# Altium footprint library mrsl.PcbLib: 218 footprints (part 11 of 14)
Each footprint in its own frame and in the unit in brackets; x right, y up, seen from the top. Pads: shape width x height; smd on the part's side, far side on the other; paste and mask are expansions set on the pad; w line width, h text height; cw(c..) or ccw(c..) is an arc to the next point about the centre after c.
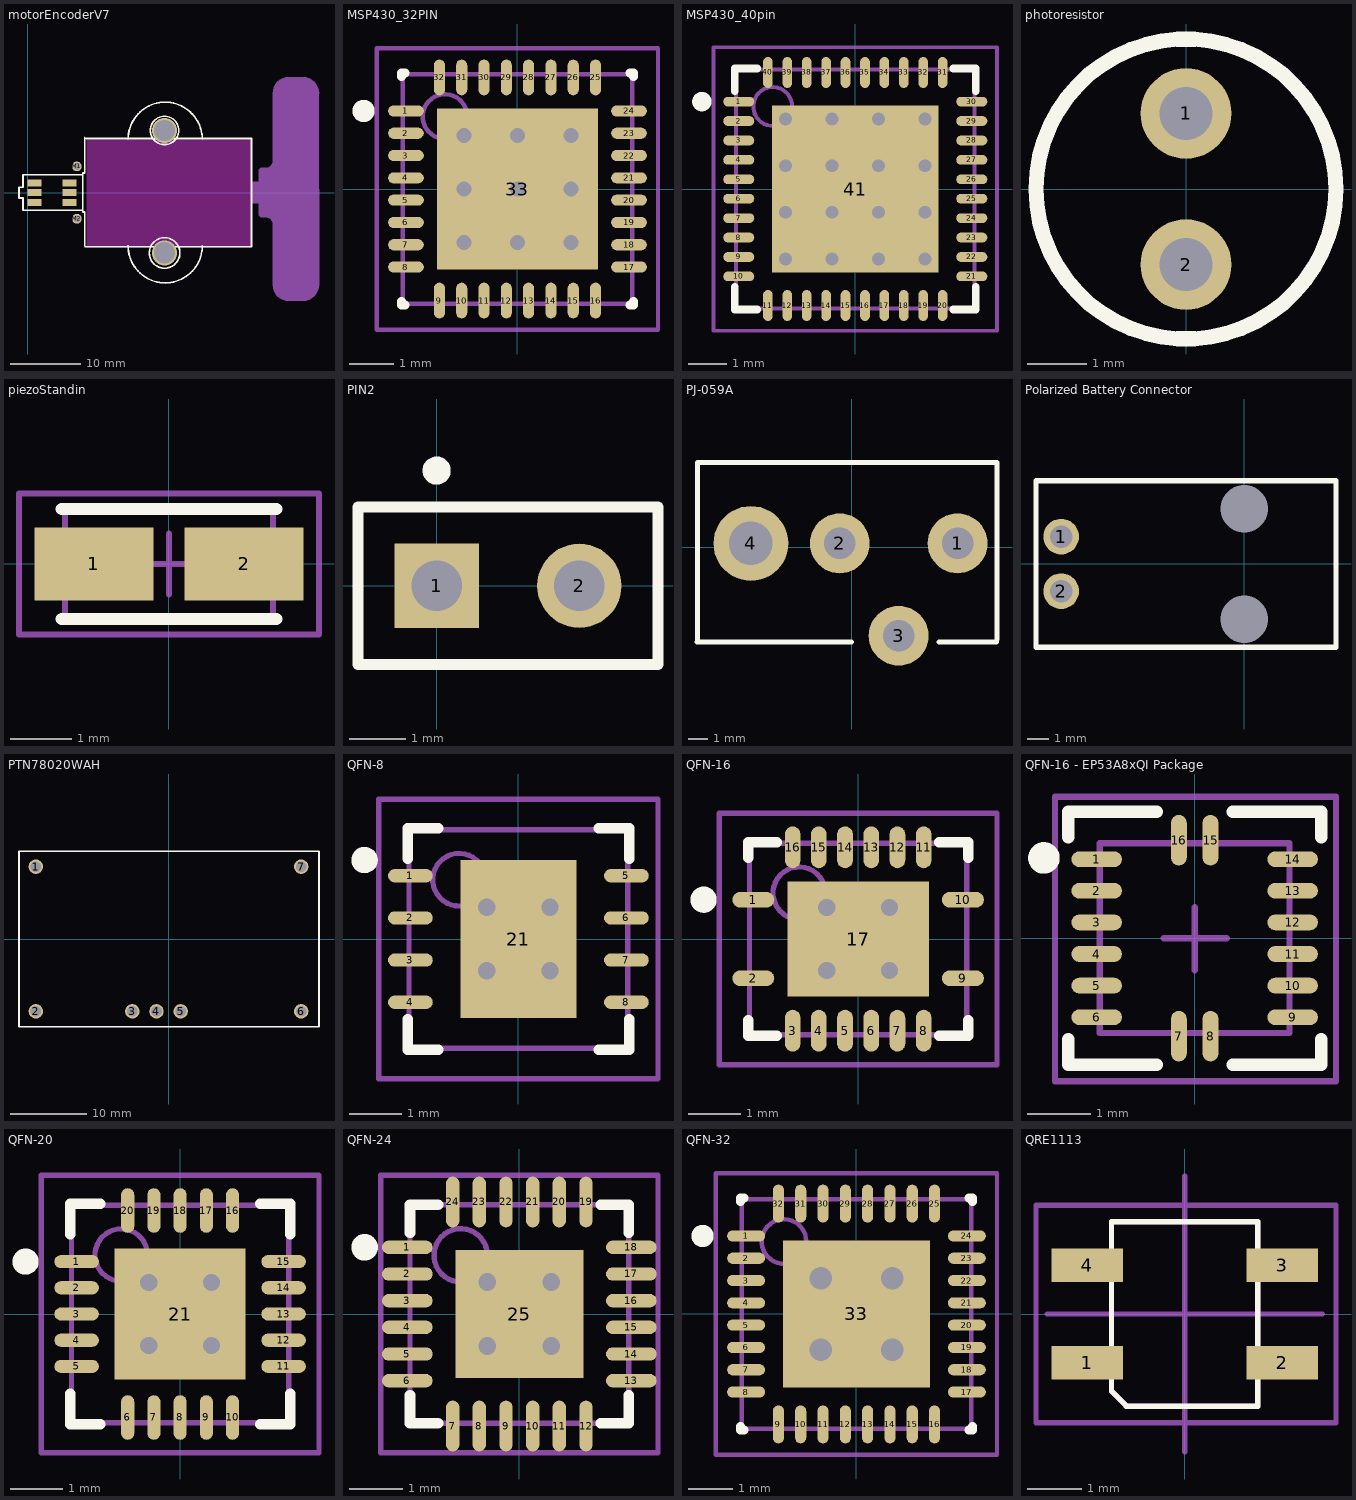
[diagram p10: the footprints below, top view; thin cyan lines are the x and y axes]

## motorEncoderV7 [mm] "Motor with encoder, Pololu"
height 2.29
pads (8):
  rect 2x1 smd: A(0.965,1.4) C(5.969,1.4) E1(5.969,0) E2(5.969,-1.4) K(0.965,-1.4) NC(0.965,0)
  round 1.4 hole 1: M1(7,3.75) M2(7,-3.75)
via 19.558,8.89 diameter 3.556 hole 3.048
via 19.558,-8.636 diameter 3.556 hole 3.048
Top Overlay:
  circle w0.254: c19.558,8.89 r2.032
  circle w0.254: c19.558,-8.636 r2.185
  lines w0.254: 7.823,-2.54 -0.711,-2.54 -0.711,-0.762 -1.27,-0.762 -1.27,0.762 -0.711,0.762 -0.711,2.54 7.849,2.54 ; 8.128,-7.75 32,-7.75 32,7.75 8.382,7.75 ; 8.128,-7.62 8.128,-2.794 7.849,-2.794 7.849,-1.041 7.849,2.794 8.128,2.794 8.128,7.874 ; 14.341,-7.62 ccw(c19.65,-7.62) 24.959,-7.62 ; 14.341,7.62 cw(c19.65,7.62) 24.959,7.62
Keep-Out Layer:
  rectangle: 8.382,-7.874 32.004,7.62
Mechanical 1:
  region: 35.035,14.224 35.08,14.672 35.21,15.103 35.423,15.5 35.708,15.848 36.056,16.134 36.453,16.346 36.884,16.477 37.332,16.521 37.332,16.51 39.364,16.521 39.813,16.477 40.244,16.346 40.641,16.134 40.989,15.848 41.274,15.5 41.487,15.103 41.617,14.672 41.662,14.224 41.65,14.224 41.662,-13.208 41.617,-13.656 41.487,-14.087 41.274,-14.484 40.989,-14.832 40.641,-15.118 40.244,-15.33 39.813,-15.461 39.364,-15.505 39.364,-15.494 37.332,-15.505 36.884,-15.461 36.453,-15.33 36.056,-15.118 35.708,-14.832 35.423,-14.484 35.21,-14.087 35.08,-13.656 35.035,-13.208 35.046,-13.208 35.055,-4.572 35.02,-4.307 34.918,-4.06 34.755,-3.847 34.543,-3.685 34.296,-3.582 34.03,-3.547 34.03,-3.556 33.522,-3.566 33.324,-3.527 33.156,-3.414 33.044,-3.246 33.005,-3.048 33.014,-3.048 33.005,3.048 33.044,3.246 33.156,3.414 33.324,3.527 33.522,3.566 33.522,3.556 34.03,3.547 34.296,3.582 34.543,3.685 34.755,3.847 34.918,4.06 35.02,4.307 35.055,4.572 35.046,4.572
  region: 32.004,1.524 33.02,1.524 33.02,-1.524 32.004,-1.524

## MSP430_32PIN [mm] "32 pin QFN"
height 1
pads (33):
  oval 0.8x0.25 smd: 1(-2.5,1.75) 2(-2.5,1.25) 3(-2.5,0.75) 4(-2.5,0.25) 5(-2.5,-0.25) 6(-2.5,-0.75) 7(-2.5,-1.25) 8(-2.5,-1.75) 17(2.5,-1.75) 18(2.5,-1.25) 19(2.5,-0.75) 20(2.5,-0.25) 21(2.5,0.25) 22(2.5,0.75) 23(2.5,1.25) 24(2.5,1.75)
  oval 0.25x0.8 smd: 9(-1.75,-2.5) 10(-1.25,-2.5) 11(-0.75,-2.5) 12(-0.25,-2.5) 13(0.25,-2.5) 14(0.75,-2.5) 15(1.25,-2.5) 16(1.75,-2.5) 25(1.75,2.5) 26(1.25,2.5) 27(0.75,2.5) 28(0.25,2.5) 29(-0.25,2.5) 30(-0.75,2.5) 31(-1.25,2.5) 32(-1.75,2.5)
  rect 3.6x3.6 smd: 33(0,0)
via -1.2,1.2 diameter 0.66 hole 0.33
via 0,1.2 diameter 0.66 hole 0.33
via 1.2,1.2 diameter 0.66 hole 0.33
via -1.2,0 diameter 0.66 hole 0.33
via 0,0 diameter 0.66 hole 0.33
via 1.2,0 diameter 0.66 hole 0.33
via -1.2,-1.2 diameter 0.66 hole 0.33
via 0,-1.2 diameter 0.66 hole 0.33
via 1.2,-1.2 diameter 0.66 hole 0.33
Top Overlay:
  circle w0.25: c-3.45,1.75 r0.125
  lines w0.2: -2.6,-2.525 -2.6,-2.6 -2.525,-2.6 ; -2.6,2.525 -2.6,2.6 -2.525,2.6 ; 2.525,-2.6 2.6,-2.6 2.6,-2.525 ; 2.525,2.6 2.6,2.6 2.6,2.525
Mechanical 13:
  circle w0.1: c-1.625,1.625 r0.5
  lines w0.1: -2.575,-2.575 -2.575,2.575 2.575,2.575 2.575,-2.575 -2.575,-2.575
Mechanical 15:
  lines w0.1: -0.5,0 0.5,0 ; 0,-0.5 0,0.5 ; -3.15,-3.15 -3.15,3.15 3.15,3.15 3.15,-3.15 -3.15,-3.15
3D body: height 1, standoff 0, extent -2.575,-2.575 2.575,2.575

## MSP430_40pin [mm] "40 pin QFN"
height 1
pads (41):
  oval 0.8x0.25 smd: 1(-3,2.25) 2(-3,1.75) 3(-3,1.25) 4(-3,0.75) 5(-3,0.25) 6(-3,-0.25) 7(-3,-0.75) 8(-3,-1.25) 9(-3,-1.75) 10(-3,-2.25) 21(3,-2.25) 22(3,-1.75) 23(3,-1.25) 24(3,-0.75) 25(3,-0.25) 26(3,0.25) 27(3,0.75) 28(3,1.25) 29(3,1.75) 30(3,2.25)
  oval 0.25x0.8 smd: 11(-2.25,-3) 12(-1.75,-3) 13(-1.25,-3) 14(-0.75,-3) 15(-0.25,-3) 16(0.25,-3) 17(0.75,-3) 18(1.25,-3) 19(1.75,-3) 20(2.25,-3) 31(2.25,3) 32(1.75,3) 33(1.25,3) 34(0.75,3) 35(0.25,3) 36(-0.25,3) 37(-0.75,3) 38(-1.25,3) 39(-1.75,3) 40(-2.25,3)
  rect 4.3x4.3 smd: 41(0,0)
via 1.8,-1.8 diameter 0.66 hole 0.33
via 0.6,-1.8 diameter 0.66 hole 0.33
via -0.6,-1.8 diameter 0.66 hole 0.33
via -1.8,-1.8 diameter 0.66 hole 0.33
via 1.8,-0.6 diameter 0.66 hole 0.33
via 0.6,-0.6 diameter 0.66 hole 0.33
via -0.6,-0.6 diameter 0.66 hole 0.33
via -1.8,-0.6 diameter 0.66 hole 0.33
via 1.8,0.6 diameter 0.66 hole 0.33
via 0.6,0.6 diameter 0.66 hole 0.33
via -0.6,0.6 diameter 0.66 hole 0.33
via -1.8,0.6 diameter 0.66 hole 0.33
via 1.8,1.8 diameter 0.66 hole 0.33
via 0.6,1.8 diameter 0.66 hole 0.33
via -0.6,1.8 diameter 0.66 hole 0.33
via -1.8,1.8 diameter 0.66 hole 0.33
Top Overlay:
  circle w0.25: c-3.95,2.25 r0.125
  lines w0.2: -3.1,-2.525 -3.1,-3.1 -2.525,-3.1 ; -3.1,2.525 -3.1,3.1 -2.525,3.1 ; 2.525,-3.1 3.1,-3.1 3.1,-2.525 ; 2.525,3.1 3.1,3.1 3.1,2.525
Mechanical 13:
  circle w0.1: c-2.125,2.125 r0.5
  lines w0.1: -3.075,-3.075 3.075,-3.075 3.075,3.075 -3.075,3.075 -3.075,-3.075
Mechanical 15:
  lines w0.1: -0.5,0 0.5,0 ; 0,-0.5 0,0.5 ; -3.65,-3.65 3.65,-3.65 3.65,3.65 -3.65,3.65 -3.65,-3.65
3D body: height 1, standoff 0, extent -3.075,-3.075 3.075,3.075

## photoresistor [mil]
pads (2):
  round 60 hole 35: 1(0,50) 2(0,-50)
Top Overlay:
  circle w10: c0,0 r99.25

## piezoStandin [mm] "Molded Capacitor, 2-Leads, Body 3.2x1.6mm, IPC Medium Density"
height 1.8
pads (2):
  rect 1.95x1.2 smd: 1(-1.225,0) 2(1.225,0)
Top Overlay:
  lines w0.2: -1.75,-0.9 1.75,-0.9 ; -1.75,0.9 1.75,0.9
Mechanical 13:
  lines w0.1: -1.7,-0.9 -1.7,0.9 1.7,0.9 1.7,-0.9 -1.7,-0.9
Mechanical 15:
  lines w0.1: -0.5,0 0.5,0 ; 0,-0.5 0,0.5 ; -2.45,-1.15 -2.45,1.15 2.45,1.15 2.45,-1.15 -2.45,-1.15
3D body: height 1.8, standoff 0, extent -1.7,-0.9 1.7,0.9

## PIN2 [mm] "Photosensitive Diode; 2 Leads"
pads (2):
  rect 1.5x1.5 hole 0.9: 1(0,0)
  round 1.5 hole 0.9: 2(2.54,0)
Top Overlay:
  circle w0.25: c0,2.05 r0.125
  lines w0.2: -1.4,-1.4 -1.4,1.4 3.94,1.4 3.94,-1.4 -1.4,-1.4

## PJ-059A [mil] "DC power jack, rated at 16 V. For use in Toaster Charger."
pads (4):
  round 120 hole 63: 1(212,7.5) 2(-24,7.5) 3(94,-177.5)
  round 150 hole 87: 4(-202,7.5)
Top Overlay:
  lines w10: -310,-190 0,-190 ; -309,-185 -309,107.5 -309,170 291,170 291,102.5 ; 175,-190 290,-190 ; 291,-185 291,107.5
3D body: height 433, standoff 5, extent -305,-185 285,165

## Polarized Battery Connector [mil]
pads (4):
  round 65.6 hole 41: 1(-336,50) 2(-336,-50)
  oct 0x0 hole 87 square: hole(0,-101.5) hole(0,101.5)
Top Overlay:
  lines w10: -382.28,-152.76 -382.28,152.36 168.5,152.36 168.5,-152.76 -382.28,-152.76

## PTN78020WAH [mil] "T.I. DC/DC Converter (PTH)"
height 350
pads (7):
  round 75 hole 55: 1(-687.5,375) 2(-687.5,-375) 3(-187.5,-375) 4(-62.5,-375) 5(62.5,-375) 6(687.5,-375) 7(687.5,375)
Top Overlay:
  lines w10: -775,-455 -775,455 780,455 780,-455 -775,-455
3D body: height 350, standoff 0, extent -770,-445 775,450

## QFN-8 [mm] "QFN, 20-Leads, Body 4.2x4.2mm (max), Pitch 0.50mm, IPC Medium Density"
height 0.8
pads (9):
  oval 0.85x0.25 smd: 1(-2.05,1.2) 2(-2.05,0.4) 3(-2.05,-0.4) 4(-2.05,-1.2) 5(2.05,1.2) 6(2.05,0.4) 7(2.05,-0.4) 8(2.05,-1.2)
  rect 2.2x3 smd: 21(0,0)
via -0.6,0.6 diameter 0.66 hole 0.33
via 0.6,0.6 diameter 0.66 hole 0.33
via -0.6,-0.6 diameter 0.66 hole 0.33
via 0.6,-0.6 diameter 0.66 hole 0.33
Top Overlay:
  circle w0.25: c-2.919,1.499 r0.125
  lines w0.2: -2.1,-1.525 -2.1,-2.1 -1.525,-2.1 ; -2.1,1.525 -2.1,2.1 -1.525,2.1 ; 1.525,-2.1 2.1,-2.1 2.1,-1.525 ; 1.525,2.1 2.1,2.1 2.1,1.525
Mechanical 13:
  circle w0.1: c-1.125,1.125 r0.5
  lines w0.1: -2.075,-2.075 -2.075,2.075 2.075,2.075 2.075,-2.075 -2.075,-2.075
Mechanical 15:
  lines w0.1: -0.5,0 0.5,0 ; 0,-0.5 0,0.5 ; -2.65,-2.65 -2.65,2.65 2.65,2.65 2.65,-2.65 -2.65,-2.65
3D body: height 0.8, standoff 0.01, extent -2.075,-2.075 2.075,2.075

## QFN-16 [mm] "QFN, 16-Leads, Body 3.7x4.2mm (max), Pitch 0.50mm, Pitch1 1.50mm, IPC Medium Density"
height 1
pads (17):
  oval 0.8x0.3 smd: 1(-2,0.75) 2(-2,-0.75) 9(2,-0.75) 10(2,0.75)
  oval 0.3x0.8 smd: 3(-1.25,-1.75) 4(-0.75,-1.75) 5(-0.25,-1.75) 6(0.25,-1.75) 7(0.75,-1.75) 8(1.25,-1.75) 11(1.25,1.75) 12(0.75,1.75) 13(0.25,1.75) 14(-0.25,1.75) 15(-0.75,1.75) 16(-1.25,1.75)
  rect 2.7x2.2 smd: 17(0,0)
via -0.6,0.6 diameter 0.66 hole 0.33
via 0.6,0.6 diameter 0.66 hole 0.33
via -0.6,-0.6 diameter 0.66 hole 0.33
via 0.6,-0.6 diameter 0.66 hole 0.33
Top Overlay:
  circle w0.25: c-2.95,0.75 r0.125
  lines w0.2: -2.1,-1.55 -2.1,-1.85 -1.55,-1.85 ; -2.1,1.55 -2.1,1.85 -1.55,1.85 ; 1.55,-1.85 2.1,-1.85 2.1,-1.55 ; 1.55,1.85 2.1,1.85 2.1,1.55
Mechanical 13:
  circle w0.1: c-1.125,0.875 r0.5
  lines w0.1: -2.075,-1.825 -2.075,1.825 2.075,1.825 2.075,-1.825 -2.075,-1.825
Mechanical 15:
  lines w0.1: -0.5,0 0.5,0 ; 0,-0.5 0,0.5 ; -2.65,-2.4 -2.65,2.4 2.65,2.4 2.65,-2.4 -2.65,-2.4
3D body: height 1, standoff 0.05, extent -2.075,-1.825 2.075,1.825

## QFN-16 - EP53A8xQI Package [mm] "EP53A8xQI Package, QFN, 16-Leads, Body 3.7x4.2mm (max), Pitch 0.50mm, IPC Medium Density"
height 1.15
pads (16):
  oval 0.8x0.25 smd: 1(-1.55,1.25) 2(-1.55,0.75) 3(-1.55,0.25) 4(-1.55,-0.25) 5(-1.55,-0.75) 6(-1.55,-1.25) 9(1.55,-1.25) 10(1.55,-0.75) 11(1.55,-0.25) 12(1.55,0.25) 13(1.55,0.75) 14(1.55,1.25)
  oval 0.25x0.8 smd: 7(-0.25,-1.55) 8(0.25,-1.55) 15(0.25,1.55) 16(-0.25,1.55)
Top Overlay:
  circle w0.25: c-2.386,1.27 r0.125
  lines w0.2: -2,-1.6 -2,-2 -0.6,-2 ; -2,1.6 -2,2 -0.6,2 ; 0.6,-2 2,-2 2,-1.6 ; 0.6,2 2,2 2,1.6
Mechanical 13:
  lines w0.1: -1.5,-1.5 1.5,-1.5 1.5,1.5 -1.5,1.5 -1.5,-1.5
Mechanical 15:
  lines w0.1: -0.492,0 0.508,0 ; 0,-0.508 0,0.492 ; -2.21,-2.261 -2.21,2.235 2.235,2.235 2.235,-2.261 -2.21,-2.261
3D body: height 1.15, standoff 0.05, extent -1.504,-1.501 1.499,1.499

## QFN-20 [mm] "QFN, 20-Leads, Body 4.2x4.2mm (max), Pitch 0.50mm, IPC Medium Density"
height 0.8
pads (21):
  oval 0.85x0.25 smd: 1(-1.975,1) 2(-1.975,0.5) 3(-1.975,0) 4(-1.975,-0.5) 5(-1.975,-1) 11(1.975,-1) 12(1.975,-0.5) 13(1.975,0) 14(1.975,0.5) 15(1.975,1)
  oval 0.25x0.85 smd: 6(-1,-1.975) 7(-0.5,-1.975) 8(0,-1.975) 9(0.5,-1.975) 10(1,-1.975) 16(1,1.975) 17(0.5,1.975) 18(0,1.975) 19(-0.5,1.975) 20(-1,1.975)
  rect 2.5x2.5 smd: 21(0,0)
via 0.6,-0.6 diameter 0.66 hole 0.33
via -0.6,-0.6 diameter 0.66 hole 0.33
via 0.6,0.6 diameter 0.66 hole 0.33
via -0.6,0.6 diameter 0.66 hole 0.33
Top Overlay:
  circle w0.25: c-2.95,1 r0.125
  lines w0.2: -2.1,-1.525 -2.1,-2.1 -1.525,-2.1 ; -2.1,1.525 -2.1,2.1 -1.525,2.1 ; 1.525,-2.1 2.1,-2.1 2.1,-1.525 ; 1.525,2.1 2.1,2.1 2.1,1.525
Mechanical 13:
  circle w0.1: c-1.125,1.125 r0.5
  lines w0.1: -2.075,-2.075 2.075,-2.075 2.075,2.075 -2.075,2.075 -2.075,-2.075
Mechanical 15:
  lines w0.1: -0.5,0 0.5,0 ; 0,-0.5 0,0.5 ; -2.65,-2.65 2.65,-2.65 2.65,2.65 -2.65,2.65 -2.65,-2.65
3D body: height 0.8, standoff 0.01, extent -2.075,-2.075 2.075,2.075

## QFN-24 [mm] "QFN, 24-Leads, Body 4.1x4.1mm (max), Pitch 0.50mm, IPC Medium Density"
height 0.8
pads (25):
  oval 0.95x0.25 smd: 1(-2.1,1.25) 2(-2.1,0.75) 3(-2.1,0.25) 4(-2.1,-0.25) 5(-2.1,-0.75) 6(-2.1,-1.25) 13(2.1,-1.25) 14(2.1,-0.75) 15(2.1,-0.25) 16(2.1,0.25) 17(2.1,0.75) 18(2.1,1.25)
  oval 0.25x0.95 smd: 7(-1.25,-2.1) 8(-0.75,-2.1) 9(-0.25,-2.1) 10(0.25,-2.1) 11(0.75,-2.1) 12(1.25,-2.1) 19(1.25,2.1) 20(0.75,2.1) 21(0.25,2.1) 22(-0.25,2.1) 23(-0.75,2.1) 24(-1.25,2.1)
  rect 2.4x2.4 smd: 25(0,0)
via 0.6,-0.6 diameter 0.66 hole 0.33
via -0.6,-0.6 diameter 0.66 hole 0.33
via 0.6,0.6 diameter 0.66 hole 0.33
via -0.6,0.6 diameter 0.66 hole 0.33
Top Overlay:
  circle w0.25: c-2.9,1.25 r0.125
  lines w0.2: -2.05,-1.525 -2.05,-2.05 -1.525,-2.05 ; -2.05,1.525 -2.05,2.05 -1.525,2.05 ; 1.525,-2.05 2.05,-2.05 2.05,-1.525 ; 1.525,2.05 2.05,2.05 2.05,1.525
Mechanical 13:
  circle w0.1: c-1.1,1.1 r0.5
  lines w0.1: -2.05,-2.05 2.05,-2.05 2.05,2.05 -2.05,2.05 -2.05,-2.05
Mechanical 15:
  lines w0.1: -0.5,0 0.5,0 ; 0,-0.5 0,0.5 ; -2.6,-2.6 2.6,-2.6 2.6,2.6 -2.6,2.6 -2.6,-2.6
3D body: height 0.8, standoff 0, extent -2.05,-2.05 2.05,2.05

## QFN-32 [mm] "QFN, 32-Leads, Body 5.2x5.2mm (max), Pitch 0.50mm, IPC Medium Density"
height 1
pads (33):
  oval 0.85x0.25 smd: 1(-2.475,1.75) 2(-2.475,1.25) 3(-2.475,0.75) 4(-2.475,0.25) 5(-2.475,-0.25) 6(-2.475,-0.75) 7(-2.475,-1.25) 8(-2.475,-1.75) 17(2.475,-1.75) 18(2.475,-1.25) 19(2.475,-0.75) 20(2.475,-0.25) 21(2.475,0.25) 22(2.475,0.75) 23(2.475,1.25) 24(2.475,1.75)
  oval 0.25x0.85 smd: 9(-1.75,-2.475) 10(-1.25,-2.475) 11(-0.75,-2.475) 12(-0.25,-2.475) 13(0.25,-2.475) 14(0.75,-2.475) 15(1.25,-2.475) 16(1.75,-2.475) 25(1.75,2.475) 26(1.25,2.475) 27(0.75,2.475) 28(0.25,2.475) 29(-0.25,2.475) 30(-0.75,2.475) 31(-1.25,2.475) 32(-1.75,2.475)
  rect 3.3x3.3 smd: 33(0,0)
via -0.8,0.8 diameter 0.889 hole 0.508
via 0.8,0.8 diameter 0.889 hole 0.508
via 0.8,-0.8 diameter 0.889 hole 0.508
via -0.8,-0.8 diameter 0.889 hole 0.508
Top Overlay:
  circle w0.25: c-3.45,1.75 r0.125
  lines w0.2: -2.6,-2.525 -2.6,-2.6 -2.525,-2.6 ; -2.6,2.525 -2.6,2.6 -2.525,2.6 ; 2.525,-2.6 2.6,-2.6 2.6,-2.525 ; 2.525,2.6 2.6,2.6 2.6,2.525
Mechanical 13:
  circle w0.1: c-1.625,1.625 r0.5
  lines w0.1: -2.575,-2.575 -2.575,2.575 2.575,2.575 2.575,-2.575 -2.575,-2.575
Mechanical 15:
  lines w0.1: -0.5,0 0.5,0 ; 0,-0.5 0,0.5 ; -3.15,-3.15 -3.15,3.15 3.15,3.15 3.15,-3.15 -3.15,-3.15
3D body: height 1, standoff 0, extent -2.575,-2.575 2.575,2.575

## QRE1113 [mm] "Reflective Opto Sensor with Analog Output"
height 1.1
pads (4):
  rect 1.321x0.61 smd: 1(-1.8,-0.9) 2(1.8,-0.9) 3(1.8,0.9) 4(-1.8,0.9)
Top Overlay:
  lines w0.1: -1.35,-1.425 -1.35,1.7 1.35,1.7 1.35,-1.7 -1.075,-1.7 -1.35,-1.425
Mechanical 1:
  lines w0.1: -2.54,0 2.54,0 ; 0,-2.54 0,2.54
Mechanical 13:
  lines w0.1: -1.35,-1.425 -1.075,-1.7 1.35,-1.7 1.35,1.7 -1.35,1.7 -1.35,-1.425
Mechanical 15:
  lines w0.1: -2.743,-2.007 2.794,-2.007 2.794,2.007 -2.743,2.007 -2.743,-2.007
3D body: height 1.7, standoff 0.75, extent -1.45,-1.825 1.45,1.8